# Altium footprint library DynamicComplexModulo_v1i1.PcbLib: 18 footprints (part 2 of 2)
Each footprint in its own frame and in the unit in brackets; x right, y up, seen from the top. Pads: shape width x height; smd on the part's side, far side on the other; paste and mask are expansions set on the pad; w line width, h text height; cw(c..) or ccw(c..) is an arc to the next point about the centre after c.
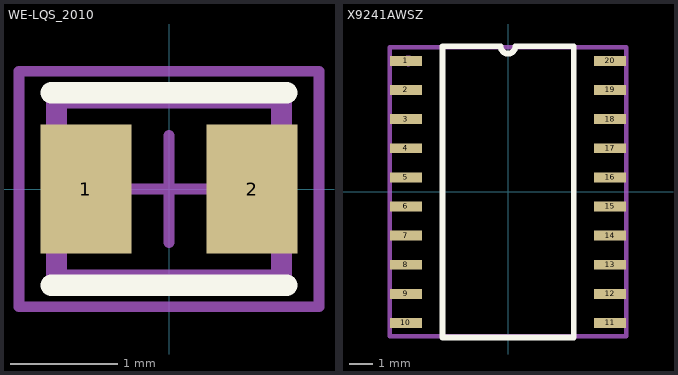
[diagram p1: the footprints below, top view; thin cyan lines are the x and y axes]

## WE-LQS_2010 [mm] "SMD Power Inductor, 2-Leads, body 2.2x1.8mm"
height 1
pads (2):
  rect 0.85x1.2 smd: 1(-0.775,0) 2(0.775,0)
Top Overlay:
  lines w0.2: -1.1,-0.9 1.1,-0.9 ; -1.1,0.9 1.1,0.9
Mechanical 1:
  lines w0.1: -1.1,-0.9 -1.1,0.9 1.1,0.9 1.1,-0.9 -1.1,-0.9
  text "'.Designator'" at -0.8,-0.4 h0.7
Mechanical 11:
  lines w0.1: -1,-0.8 -1,0.8 1,0.8 1,-0.8 -1,-0.8
Mechanical 15:
  lines w0.1: -0.5,0 0.5,0 ; 0,-0.5 0,0.5 ; -1.4,-1.1 -1.4,1.1 1.4,1.1 1.4,-1.1 -1.4,-1.1
3D body "IndLQS_2010.stp": height 1.01, standoff 0.01, extent -1,-0.8 1,0.824

## X9241AWSZ [mil]
pads (20):
  rect 55x17 smd mask+0.79: 1(-175.25,225) 2(-175.25,175) 3(-175.25,125) 4(-175.25,75) 5(-175.25,25) 6(-175.25,-25) 7(-175.25,-75) 8(-175.25,-125) 9(-175.25,-175) 10(-175.25,-225) 11(175.25,-225) 12(175.25,-175) 13(175.25,-125) 14(175.25,-75) 15(175.25,-25) 16(175.25,25) 17(175.25,75) 18(175.25,125) 19(175.25,175) 20(175.25,225)
Top Overlay:
  lines w10: -112.75,-250 -112.75,250 -12.5,250 ccw(c0,250) 12.5,250 112.75,250 112.75,-250 -112.75,-250
Mechanical 1:
  circle w7.87: c-171.31,225 r5.57
  lines w7.87: -202.81,-247.44 202.7,-247.44 202.7,248.62 -202.81,248.62 -202.81,-247.44
  text "'.Designator'" at 37.35,-78.15 h60
3D body: height 51.18, standoff -36.9, extent 19.75,15 19.75,15
3D body "SOIC20.STEP": height 88.58, standoff 0.5, extent -199.74,-248.04 199.24,248.02